# Altium integrated library Fuse.IntLib: 9 symbols
Pins are listed as number, name and electrical type; pins without a type are passive.

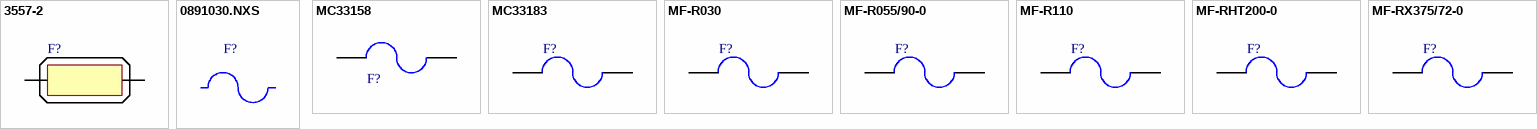
[diagram p0: symbols 3557-2 to MF-RX375/72-0]

## 3557-2
designator F?  (value not drawn)
FUSE Holder 500V 30A PCB; Manufacturer: Keystone Electronics; Value: na; Supplier 1: Farnell; Supplier Part Number 1: 2292904; Manufacturer Part Number: 3557-2; ComponentLink1URL: http://www.keyelco.com/product-pdf.cfm?p=296; ComponentLink1Description: Datasheet
footprint 3557-2 (Fuse holder)
pins: 1, 2, 3, 4

## 0891030.NXS
designator F?  (value not drawn)  (mechanical)
FUSE AUTO 30A 58VDC BLADE MINI; Manufacturer: Littelfuse Inc.; Manufacturer Part Number: 0891030.NXS; Supplier 1: Digi-Key; Supplier Part Number 1: F4993-ND; ComponentLink1URL: http://www.littelfuse.com/~/media/automotive/datasheets/fuses/passenger-car-and-commercial-vehicle/blade-fuses/littelfuse_lowprofilemini_datasheet.pdf; ComponentLink1Description: Datasheet; Value: 30A

## MC33158
designator F?  (value not drawn)
Fuse Traverssant; Manufacturer: BOURNS; Value: 1.1A; Manufacturer Part Number: MC33158; Supplier 1: Farnell; Supplier Part Number 1: 1800714
footprint MF-RHT200-0
pins: 1, 2

## MC33183
designator F?  (value not drawn)
Fuse Traverssant; Manufacturer: BOURNS; Value: 2.5A; Manufacturer Part Number: MC33183; Supplier 1: Farnell; Supplier Part Number 1: 1800741
footprint MC33183
pins: 1, 2

## MF-R030
designator F?  (value not drawn)
Fuse Traverssant; Manufacturer: BOURNS; Value: 0.3A; Manufacturer Part Number: MF-R030; Supplier 1: Farnell; Supplier Part Number 1: 9350403
footprint MF-R030
pins: 1, 2

## MF-R055/90-0
designator F?  (value not drawn)
Fuse Traverssant; Manufacturer: BOURNS; Value: 0.55A; Supplier 1: Farnell; Supplier Part Number 1: 1652181; Manufacturer Part Number: MF-R055/90-0
footprint MF-R055/90-0
pins: 1, 2

## MF-R110
designator F?  (value not drawn)
Fuse Traverssant; Manufacturer: BOURNS; Value: 1.1A; Manufacturer Part Number: MF-R110; Supplier 1: Farnell; Supplier Part Number 1: 9350462
footprint MF-R110
pins: 1, 2

## MF-RHT200-0
designator F?  (value not drawn)
Fuse Traverssant; Manufacturer: BOURNS; Value: 2A; Manufacturer Part Number: MF-RHT200-0; Supplier 1: Farnell; Supplier Part Number 1: 1652206
footprint MF-RHT200-0
pins: 1, 2

## MF-RX375/72-0
designator F?  (value not drawn)
Fuse Traverssant; Manufacturer: BOURNS; Value: 3.75A; Manufacturer Part Number: MF-RX375/72-0; Supplier 1: Farnell; Supplier Part Number 1: 9350187
footprint MF-RX375/72-0
pins: 1, 2